# Altium integrated library Renesas ASSP.IntLib: 185 symbols (part 2 of 6)
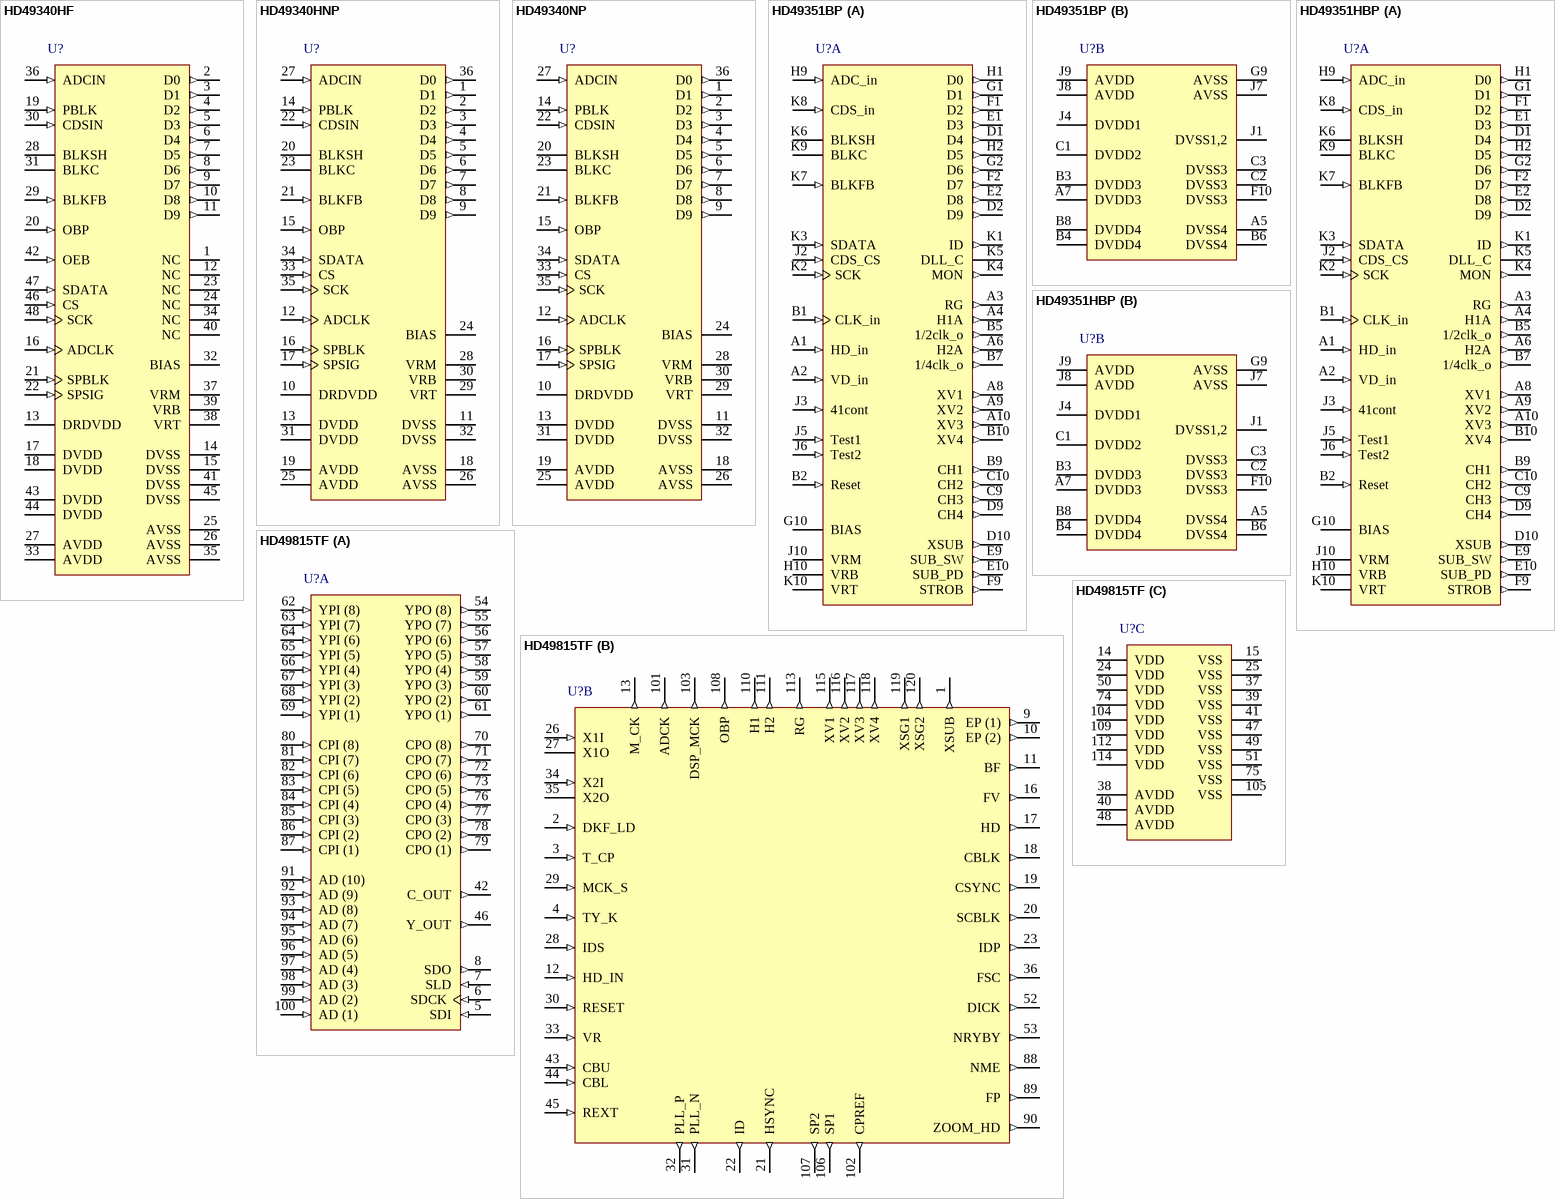
[diagram p17: symbols HD49340HF to HD49815TF]

## HD49351BP
designator U?
CDS/PGA & 10-Bit A/D Converter + TG Converter, 150mW, 25MHz max, 65-pin FBGA, 65-Ball FBGA; Published: 5-Feb-2010; DatasheetVersion: Rev.1.00, Jul-2004; PackageVersion: Jul-2004; PackageReference: TFBGA0606-65; Publisher: Altium Limited; PackageDescription: 65-Ball Plastic Thin Fine Pitch BGA, 6 x 6 mm Body, 0.5 mm Pitch; ComponentLink1Description: Manufacturer Link; ComponentLink1URL: http://sg.renesas.com/fmwk.jsp?cnt=assp_category_landing.jsp&fp=/products/assp; ComponentLink2Description: Datasheet; ComponentLink2URL: http://documentation.renesas.com/eng/products/assp/rej03f0110_hd49351bp_hbp.pdf
footprint TFBGA0606-65 (BGA, 65-Leads, Body 6x6mm, Pitch 0.5mm)
part A pins: A1 HD_in (in), A2 VD_in (in), A3 RG (out), A4 H1A (out), A6 H2A (out), A8 XV1 (out), A9 XV2 (out), A10 XV3 (out), B1 CLK_in (in), B2 Reset (in), B5 1/2clk_o (out), B7 1/4clk_o (out), B9 CH1 (out), B10 XV4 (out), C9 CH3 (out), C10 CH2 (out), D1 D4 (out), D2 D9 (out), D9 CH4 (out), D10 XSUB (out), E1 D3 (out), E2 D8 (out), E9 SUB_SW (out), E10 SUB_PD (out), F1 D2 (out), F2 D7 (out), F9 STROB (out), G1 D1 (out), G2 D6 (out), G10 BIAS, H1 D0 (out), H2 D5 (out), H9 ADC_in (in), H10 VRB, J2 CDS_CS (in), J3 41cont (in), J5 Test1 (in), J6 Test2 (in), J10 VRM, K1 ID (out), K2 SCK (in), K3 SDATA (in), K4 MON (out), K5 DLL_C, K6 BLKSH, K7 BLKFB (in), K8 CDS_in (in), K9 BLKC, K10 VRT
part B pins: A5 DVSS4 (power), A7 DVDD3 (power), B3 DVDD3 (power), B4 DVDD4 (power), B6 DVSS4 (power), B8 DVDD4 (power), C1 DVDD2 (power), C2 DVSS3 (power), C3 DVSS3 (power), F10 DVSS3 (power), G9 AVSS (power), J1 DVSS1,2 (power), J4 DVDD1 (power), J7 AVSS (power), J8 AVDD (power), J9 AVDD (power)

## HD49351HBP
designator U?
CDS/PGA & 10-Bit A/D Converter + TG Converter, 220mW, 36MHz max, 65-pin FBGA, 65-Ball FBGA; Published: 5-Feb-2010; DatasheetVersion: Rev.1.00, Jul-2004; PackageVersion: Jul-2004; PackageReference: TFBGA0606-65; Publisher: Altium Limited; PackageDescription: 65-Ball Plastic Thin Fine Pitch BGA, 6 x 6 mm Body, 0.5 mm Pitch; ComponentLink1Description: Manufacturer Link; ComponentLink1URL: http://sg.renesas.com/fmwk.jsp?cnt=assp_category_landing.jsp&fp=/products/assp; ComponentLink2Description: Datasheet; ComponentLink2URL: http://documentation.renesas.com/eng/products/assp/rej03f0110_hd49351bp_hbp.pdf
footprint TFBGA0606-65 (BGA, 65-Leads, Body 6x6mm, Pitch 0.5mm)
part A pins: A1 HD_in (in), A2 VD_in (in), A3 RG (out), A4 H1A (out), A6 H2A (out), A8 XV1 (out), A9 XV2 (out), A10 XV3 (out), B1 CLK_in (in), B2 Reset (in), B5 1/2clk_o (out), B7 1/4clk_o (out), B9 CH1 (out), B10 XV4 (out), C9 CH3 (out), C10 CH2 (out), D1 D4 (out), D2 D9 (out), D9 CH4 (out), D10 XSUB (out), E1 D3 (out), E2 D8 (out), E9 SUB_SW (out), E10 SUB_PD (out), F1 D2 (out), F2 D7 (out), F9 STROB (out), G1 D1 (out), G2 D6 (out), G10 BIAS, H1 D0 (out), H2 D5 (out), H9 ADC_in (in), H10 VRB, J2 CDS_CS (in), J3 41cont (in), J5 Test1 (in), J6 Test2 (in), J10 VRM, K1 ID (out), K2 SCK (in), K3 SDATA (in), K4 MON (out), K5 DLL_C, K6 BLKSH, K7 BLKFB (in), K8 CDS_in (in), K9 BLKC, K10 VRT
part B pins: A5 DVSS4 (power), A7 DVDD3 (power), B3 DVDD3 (power), B4 DVDD4 (power), B6 DVSS4 (power), B8 DVDD4 (power), C1 DVDD2 (power), C2 DVSS3 (power), C3 DVSS3 (power), F10 DVSS3 (power), G9 AVSS (power), J1 DVSS1,2 (power), J4 DVDD1 (power), J7 AVSS (power), J8 AVDD (power), J9 AVDD (power)

## HD49815TF
designator U?
Digitial Camera Signal Processor, 120-Pin QFP; Published: 5-Feb-2010; DatasheetVersion: Rev.1.00, Jun-2005; PackageVersion: Sep-2005; PackageReference: PTQP0120LA-A; Publisher: Altium Limited; PackageDescription: 120-Pin Plastic Thin QFP, 14 x 14 x 1.0 mm Body, 0.4 mm Pitch; Code_JEITA: P-TQFP120-14x14-0.40; ComponentLink1Description: Manufacturer Link; ComponentLink1URL: http://sg.renesas.com/fmwk.jsp?cnt=assp_category_landing.jsp&fp=/products/assp; ComponentLink2Description: Datasheet; ComponentLink2URL: http://documentation.renesas.com/eng/products/assp/rej03f0138_hd49815tf.pdf; ComponentLink3Description: Packaging Specification; ComponentLink3URL: http://sg.renesas.com/media/products/common_info/package/pdf/ic/code/ptqp0120la_a.pdf
footprint PTQP0120LA-A_N (Thin QFP, 120-Leads, Body 14x14mm, Pitch 0.4mm, IPC Medium Density)
footprint PTQP0120LA-A_L (Thin QFP, 120-Leads, Body 14x14mm, Pitch 0.4mm, IPC High Density)
footprint PTQP0120LA-A_M (Thin QFP, 120-Leads, Body 14x14mm, Pitch 0.4mm, IPC Low Density)
part A pins: 5 SDI (in), 6 SDCK (in), 7 SLD (in), 8 SDO (out), 42 C_OUT (out), 46 Y_OUT (out), 54 YPO (8) (out), 55 YPO (7) (out), 56 YPO (6) (out), 57 YPO (5) (out), 58 YPO (4) (out), 59 YPO (3) (out), 60 YPO (2) (out), 61 YPO (1) (out), 62 YPI (8) (in), 63 YPI (7) (in), 64 YPI (6) (in), 65 YPI (5) (in), 66 YPI (4) (in), 67 YPI (3) (in), 68 YPI (2) (in), 69 YPI (1) (in), 70 CPO (8) (out), 71 CPO (7) (out), 72 CPO (6) (out), 73 CPO (5) (out), 76 CPO (4) (out), 77 CPO (3) (out), 78 CPO (2) (out), 79 CPO (1) (out), 80 CPI (8) (in), 81 CPI (7) (in), 82 CPI (6) (in), 83 CPI (5) (in), 84 CPI (4) (in), 85 CPI (3) (in), 86 CPI (2) (in), 87 CPI (1) (in), 91 AD (10) (in), 92 AD (9) (in), 93 AD (8) (in), 94 AD (7) (in), 95 AD (6) (in), 96 AD (5) (in), 97 AD (4) (in), 98 AD (3) (in), 99 AD (2) (in), 100 AD (1) (in)
part B pins: 1 XSUB (out), 2 DKF_LD (in), 3 T_CP (in), 4 TY_K (in), 9 EP (1) (out), 10 EP (2) (out), 11 BF (out), 12 HD_IN (in), 13 M_CK (out), 16 FV (out), 17 HD (out), 18 CBLK (out), 19 CSYNC (out), 20 SCBLK (out), 21 HSYNC (out), 22 ID (out), 23 IDP (out), 26 X1I (in), 27 X1O, 28 IDS (in), 29 MCK_S (in), 30 RESET (in), 31 PLL_N (out), 32 PLL_P (out), 33 VR (in), 34 X2I (in), 35 X2O, 36 FSC (out), 43 CBU (in), 44 CBL (in), 45 REXT (in), 52 DICK (out), 53 NRYBY (out), 88 NME (out), 89 FP (out), 90 ZOOM_HD (out), 101 ADCK (out), 102 CPREF (out), 103 DSP_MCK (out), 106 SP1 (out), 107 SP2 (out), 108 OBP (out), 110 H1 (out), 111 H2 (out), 113 RG (out), 115 XV1 (out), 116 XV2 (out), 117 XV3 (out), 118 XV4 (out), 119 XSG1 (out), 120 XSG2 (out)
part C pins: 14 VDD, 15 VSS, 24 VDD, 25 VSS, 37 VSS, 38 AVDD, 39 VSS, 40 AVDD, 41 VSS, 47 VSS, 48 AVDD, 49 VSS, 50 VDD, 51 VSS, 74 VDD, 75 VSS, 104 VDD, 105 VSS, 109 VDD, 112 VDD, 114 VDD

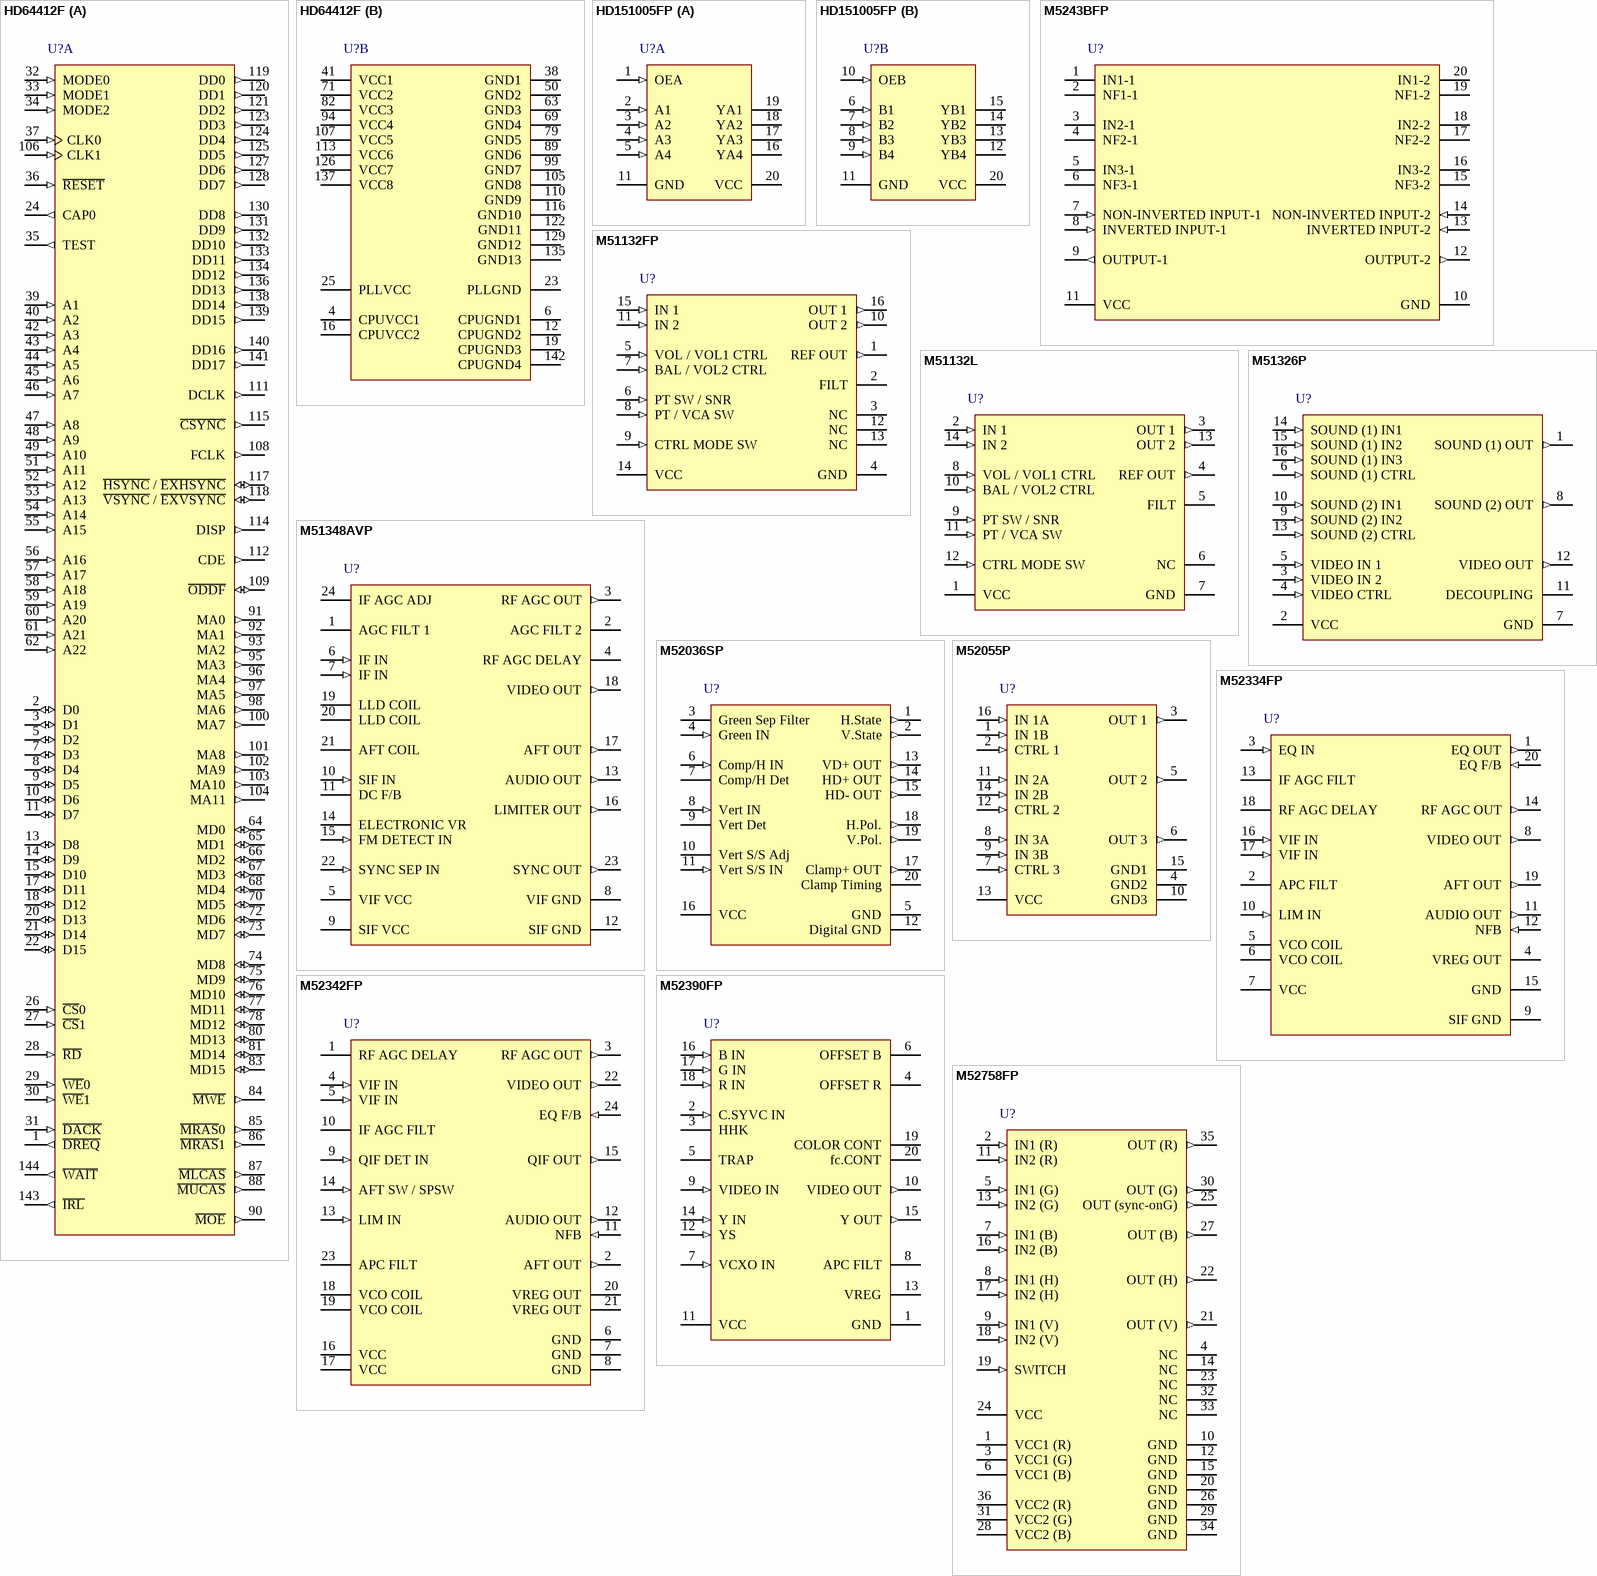
[diagram p3: symbols HD64412F to M52758FP]

## HD64412F
designator U?
Quick 2D SuperH Graphics Accelerator, 144-Pin QFP; Published: 5-Feb-2010; DatasheetVersion: Rev.1.0, May-2000; PackageVersion: Sep-2005; PackageReference: PRQP0144KA-A; Publisher: Altium Limited; PackageDescription: 144-Pin Plastic Quad Flat Pack, 20 x 20 x 2.7 mm Body, 0.5 mm Pitch; Code_JEITA: P-QFP144-20x20-0.50; ComponentLink1Description: Manufacturer Link; ComponentLink1URL: http://sg.renesas.com/fmwk.jsp?cnt=assp_category_landing.jsp&fp=/products/assp; ComponentLink2Description: Datasheet; ComponentLink2URL: http://documentation.renesas.com/eng/products/mpumcu/e602158_hd64412.pdf; ComponentLink3Description: Packaging Specification; ComponentLink3URL: http://sg.renesas.com/media/products/common_info/package/pdf/ic/code/prqp0144ka_a.pdf
footprint PRQP0144KA-A_N (Shrink QFP, 144-Leads, Body 20x20mm, Pitch 0.5mm, IPC Medium Density)
footprint PRQP0144KA-A_L (Shrink QFP, 144-Leads, Body 20x20mm, Pitch 0.5mm, IPC High Density)
footprint PRQP0144KA-A_M (Shrink QFP, 144-Leads, Body 20x20mm, Pitch 0.5mm, IPC Low Density)
part A pins: 1 ~{DREQ} (out), 2 D0 (io), 3 D1 (io), 5 D2 (io), 7 D3 (io), 8 D4 (io), 9 D5 (io), 10 D6 (io), 11 D7 (io), 13 D8 (io), 14 D9 (io), 15 D10 (io), 17 D11 (io), 18 D12 (io), 20 D13 (io), 21 D14 (io), 22 D15 (io), 24 CAP0 (out), 26 ~{CS}0 (in), 27 ~{CS}1 (in), 28 ~{RD} (in), 29 ~{WE}0 (in), 30 ~{WE}1 (in), 31 ~{DACK} (in), 32 MODE0 (in), 33 MODE1 (in), 34 MODE2 (in), 35 TEST (out), 36 ~{RESET} (in), 37 CLK0 (in), 39 A1 (in), 40 A2 (in), 42 A3 (in), 43 A4 (in), 44 A5 (in), 45 A6 (in), 46 A7 (in), 47 A8 (in), 48 A9 (in), 49 A10 (in), 51 A11 (in), 52 A12 (in), 53 A13 (in), 54 A14 (in), 55 A15 (in), 56 A16 (in), 57 A17 (in), 58 A18 (in), 59 A19 (in), 60 A20 (in), 61 A21 (in), 62 A22 (in), 64 MD0 (io), 65 MD1 (io), 66 MD2 (io), 67 MD3 (io), 68 MD4 (io), 70 MD5 (io), 72 MD6 (io), 73 MD7 (io), 74 MD8 (io), 75 MD9 (io), 76 MD10 (io), 77 MD11 (io), 78 MD12 (io), 80 MD13 (io), 81 MD14 (io), 83 MD15 (io), 84 ~{MWE} (out), 85 ~{MRAS}0 (out), 86 ~{MRAS}1 (out), 87 ~{MLCAS} (out), 88 ~{MUCAS} (out), 90 ~{MOE} (out), 91 MA0 (out), 92 MA1 (out), 93 MA2 (out), 95 MA3 (out), 96 MA4 (out), 97 MA5 (out), 98 MA6 (out), 100 MA7 (out), 101 MA8 (out), 102 MA9 (out), 103 MA10 (out), 104 MA11 (out), 106 CLK1 (in), 108 FCLK (out), 109 ~{ODDF} (io), 111 DCLK (out), 112 CDE (out), 114 DISP (out), 115 ~{CSYNC} (out), 117 ~{HSYNC} / ~{EXHSYNC} (io), 118 ~{VSYNC} / ~{EXVSYNC} (io), 119 DD0 (out), 120 DD1 (out), 121 DD2 (out), 123 DD3 (out), 124 DD4 (out), 125 DD5 (out), 127 DD6 (out), 128 DD7 (out), 130 DD8 (out), 131 DD9 (out), 132 DD10 (out), 133 DD11 (out), 134 DD12 (out), 136 DD13 (out), 138 DD14 (out), 139 DD15 (out), 140 DD16 (out), 141 DD17 (out), 143 ~{IRL} (out), 144 ~{WAIT} (out)
part B pins: 4 CPUVCC1 (power), 6 CPUGND1 (power), 12 CPUGND2 (power), 16 CPUVCC2 (power), 19 CPUGND3 (power), 23 PLLGND (power), 25 PLLVCC (power), 38 GND1 (power), 41 VCC1 (power), 50 GND2 (power), 63 GND3 (power), 69 GND4 (power), 71 VCC2 (power), 79 GND5 (power), 82 VCC3 (power), 89 GND6 (power), 94 VCC4 (power), 99 GND7 (power), 105 GND8 (power), 107 VCC5 (power), 110 GND9 (power), 113 VCC6 (power), 116 GND10 (power), 122 GND11 (power), 126 VCC7 (power), 129 GND12 (power), 135 GND13 (power), 137 VCC8 (power), 142 CPUGND4 (power)

## HD151005FP
designator U?
Octal Inverter Buffers/Drivers with Open-Drain High Voltage Outputs, 20-Pin SOP; Published: 5-Feb-2010; DatasheetVersion: Rev.2.00, Jul-2004; PackageVersion: Sep-2005; PackageReference: PRSP0020DD-B; Publisher: Altium Limited; PackageDescription: 20-Pin Plastic Small Outline Package, 12.6 x 5.5 x 1.8 mm Body, 1.27 mm Pitch; Code_JEITA: P-SOP20-5.5x12.6-1.27; ComponentLink1Description: Manufacturer Link; ComponentLink1URL: http://sg.renesas.com/fmwk.jsp?cnt=assp_category_landing.jsp&fp=/products/assp; ComponentLink2Description: Datasheet; ComponentLink2URL: http://documentation.renesas.com/eng/products/logic/rej03d0297_hd151005.pdf; ComponentLink3Description: Packaging Specification; ComponentLink3URL: http://sg.renesas.com/media/products/common_info/package/pdf/ic/code/prsp0020dd_b.pdf
footprint PRSP0020DD-B_N (SOP, 20-Leads, Body 12.6x5.3mm, Pitch 1.27mm, IPC Medium Density)
footprint PRSP0020DD-B_L (SOP, 20-Leads, Body 12.6x5.3mm, Pitch 1.27mm, IPC High Density)
footprint PRSP0020DD-B_M (SOP, 20-Leads, Body 12.6x5.3mm, Pitch 1.27mm, IPC Low Density)
pins on every part: 11 GND (power), 20 VCC (power)
part A pins: 1 OEA (in), 2 A1 (in), 3 A2 (in), 4 A3 (in), 5 A4 (in), 16 YA4 (oc), 17 YA3 (oc), 18 YA2 (oc), 19 YA1 (oc)
part B pins: 6 B1 (in), 7 B2 (in), 8 B3 (in), 9 B4 (in), 10 OEB (in), 12 YB4 (oc), 13 YB3 (oc), 14 YB2 (oc), 15 YB1 (oc)

## M5243BFP
designator U?
3 Band Dual Graphic Equalizer, 20-Pin SOP; Published: 5-Feb-2010; DatasheetVersion: Rev.1.0, Sep-2003; PackageVersion: Sep-2005; PackageReference: PRSP0020DA-A; Publisher: Altium Limited; PackageDescription: 20-Pin Plastic Small Outline Package, 12.6 x 5.3 x 1.8 mm Body, 1.27 mm Pitch; Code_JEITA: P-SOP20-5.3x12.6-1.27; ComponentLink1Description: Manufacturer Link; ComponentLink1URL: http://sg.renesas.com/fmwk.jsp?cnt=assp_category_landing.jsp&fp=/products/assp; ComponentLink2Description: Datasheet; ComponentLink2URL: http://documentation.renesas.com/eng/products/assp/rej03f0082_m5243bfp.pdf; ComponentLink3Description: Packaging Specification; ComponentLink3URL: http://sg.renesas.com/media/products/common_info/package/pdf/ic/code/prsp0020da_a.pdf
footprint PRSP0020DA-A_N (SOP, 20-Leads, Body 12.6x5.3mm, Pitch 1.27mm, IPC Medium Density)
footprint PRSP0020DA-A_L (SOP, 20-Leads, Body 12.6x5.3mm, Pitch 1.27mm, IPC High Density)
footprint PRSP0020DA-A_M (SOP, 20-Leads, Body 12.6x5.3mm, Pitch 1.27mm, IPC Low Density)
pins: 1 IN1-1, 2 NF1-1, 3 IN2-1, 4 NF2-1, 5 IN3-1, 6 NF3-1, 7 NON-INVERTED INPUT-1 (in), 8 INVERTED INPUT-1 (in), 9 OUTPUT-1 (out), 10 GND (power), 11 VCC (power), 12 OUTPUT-2 (out), 13 INVERTED INPUT-2 (in), 14 NON-INVERTED INPUT-2 (in), 15 NF3-2, 16 IN3-2, 17 NF2-2, 18 IN2-2, 19 NF1-2, 20 IN1-2

## M51132FP
designator U?
Dual Electronic Volume/Balance, 16-Pin SOP; Published: 5-Feb-2010; DatasheetVersion: Rev.1.0, Sep-2003; PackageVersion: Sep-2005; PackageReference: PRSP0016DE-A; Publisher: Altium Limited; PackageDescription: 16-Pin Plastic Small Outline Package 1.27 mm Pitch; Code_JEITA: P-SOP16-5.3x10.1-1.27; ComponentLink1Description: Manufacturer Link; ComponentLink1URL: http://sg.renesas.com/fmwk.jsp?cnt=assp_category_landing.jsp&fp=/products/assp; ComponentLink2Description: Datasheet; ComponentLink2URL: http://documentation.renesas.com/eng/products/assp/rej03f0026_m51132l_fp.pdf; ComponentLink3Description: Packaging Specification; ComponentLink3URL: http://sg.renesas.com/media/products/common_info/package/pdf/ic/code/prsp0016de_a.pdf
footprint PRSP0016DE-A_N (SOP, 16-Leads, Body 10.1x5.3mm, Pitch 1.27mm, IPC Medium Density)
footprint PRSP0016DE-A_L (SOP, 16-Leads, Body 10.1x5.3mm, Pitch 1.27mm, IPC High Density)
footprint PRSP0016DE-A_M (SOP, 16-Leads, Body 10.1x5.3mm, Pitch 1.27mm, IPC Low Density)
pins: 1 REF OUT (out), 2 FILT, 3 NC, 4 GND (power), 5 VOL / VOL1 CTRL (in), 6 PT SW / SNR (in), 7 BAL / VOL2 CTRL (in), 8 PT / VCA SW (in), 9 CTRL MODE SW (in), 10 OUT 2 (out), 11 IN 2 (in), 12 NC, 13 NC, 14 VCC (power), 15 IN 1 (in), 16 OUT 1 (out)

## M51132L
designator U?
Dual Electronic Volume/Balance, 14-Pin ZIP; Published: 5-Feb-2010; DatasheetVersion: Rev.1.0, Sep-2003; PackageVersion: Jun-2006; PackageReference: PRZP0014DA-A; Publisher: Altium Limited; PackageDescription: 14-Pin Plastic ZIP, 19x2.8x6.4 mm Body, 1.27 mm Pitch; Code_JEITA: P-ZIP14-6.3x19-1.27; ComponentLink1Description: Manufacturer Link; ComponentLink1URL: http://sg.renesas.com/fmwk.jsp?cnt=assp_category_landing.jsp&fp=/products/assp; ComponentLink2Description: Datasheet; ComponentLink2URL: http://documentation.renesas.com/eng/products/assp/rej03f0026_m51132l_fp.pdf; ComponentLink3Description: Packaging Specification; ComponentLink3URL: http://sg.renesas.com/media/products/common_info/package/pdf/ic/code/przp0014da_a.pdf
footprint PRZP0014DA-A (ZIP; 14 Leads; Row Space 2.54 mm; Pitch 1.27 mm)
pins: 1 VCC (power), 2 IN 1 (in), 3 OUT 1 (out), 4 REF OUT (out), 5 FILT, 6 NC, 7 GND (power), 8 VOL / VOL1 CTRL (in), 9 PT SW / SNR (in), 10 BAL / VOL2 CTRL (in), 11 PT / VCA SW (in), 12 CTRL MODE SW (in), 13 OUT 2 (out), 14 IN 2 (in)

## M51326P
designator U?
Analog Switch for video and sound inputs, 16-Pin DIP; ComponentAvailability: EOL Product; Published: 5-Feb-2010; DatasheetVersion: Rev.1.0, Sep-2003; PackageVersion: Sep-2005; PackageReference: PRDP0016AA-A; Publisher: Altium Limited; PackageDescription: 16-Pin Plastic DIP, 19 x 6.3 mm Body, 7.62 mm Row Spacing, Pitch 2.54 mm; Code_JEITA: P-DIP16-6.3x19-2.54; ComponentLink1Description: Manufacturer Link; ComponentLink1URL: http://sg.renesas.com/fmwk.jsp?cnt=assp_category_landing.jsp&fp=/products/assp; ComponentLink2Description: Datasheet; ComponentLink2URL: http://documentation.renesas.com/eng/products/assp/rej03f0079_m51326p.pdf; ComponentLink3Description: Packaging Specification; ComponentLink3URL: http://sg.renesas.com/media/products/common_info/package/pdf/ic/code/prdp0016aa_a.pdf
footprint PRDP0016AA-A (DIP, 16-Leads, Row Spacing 7.62mm, Pitch 2.54mm, Body 19x6.3mm)
pins: 1 SOUND (1) OUT (out), 2 VCC (power), 3 VIDEO IN 2 (in), 4 VIDEO CTRL (in), 5 VIDEO IN 1 (in), 6 SOUND (1) CTRL (in), 7 GND (power), 8 SOUND (2) OUT (out), 9 SOUND (2) IN2 (in), 10 SOUND (2) IN1 (in), 11 DECOUPLING, 12 VIDEO OUT (out), 13 SOUND (2) CTRL (in), 14 SOUND (1) IN1 (in), 15 SOUND (1) IN2 (in), 16 SOUND (1) IN3 (in)

## M51348AVP
designator U?
VIF/SIF for Low Supply Voltage, 24-Pin SOP; ComponentAvailability: EOL Product; Published: 5-Feb-2010; DatasheetVersion: Rev.1.0, Sep-2003; PackageVersion: Sep-2005; PackageReference: PLSP0024JA-A; Publisher: Altium Limited; PackageDescription: 24-Pin Plastic Low Profile Shrink SOP, 7.8 x 5.6 x 1.15 mm Body, 0.65 mm Pitch; Code_JEITA: P-LSSOP24-5.6x7.8-0.65; ComponentLink1Description: Manufacturer Link; ComponentLink1URL: http://sg.renesas.com/fmwk.jsp?cnt=assp_category_landing.jsp&fp=/products/assp; ComponentLink2Description: Datasheet; ComponentLink2URL: http://documentation.renesas.com/eng/products/assp/rej03f0062_m51348avp.pdf; ComponentLink3Description: Packaging Specification; ComponentLink3URL: http://sg.renesas.com/media/products/common_info/package/pdf/ic/code/plsp0024ja_a.pdf
footprint PLSP0024JA-A_N (SOP, 24-Leads, Body 7.8x5.6mm, Pitch 0.65mm, IPC Medium Density)
footprint PLSP0024JA-A_L (SOP, 24-Leads, Body 7.8x5.6mm, Pitch 0.65mm, IPC High Density)
footprint PLSP0024JA-A_M (SOP, 24-Leads, Body 7.8x5.6mm, Pitch 0.65mm, IPC Low Density)
pins: 1 AGC FILT 1, 2 AGC FILT 2, 3 RF AGC OUT (out), 4 RF AGC DELAY, 5 VIF VCC (power), 6 IF IN (in), 7 IF IN (in), 8 VIF GND (power), 9 SIF VCC (power), 10 SIF IN (in), 11 DC F/B, 12 SIF GND (power), 13 AUDIO OUT (out), 14 ELECTRONIC VR, 15 FM DETECT IN (in), 16 LIMITER OUT (out), 17 AFT OUT (out), 18 VIDEO OUT (out), 19 LLD COIL, 20 LLD COIL, 21 AFT COIL, 22 SYNC SEP IN (in), 23 SYNC OUT (out), 24 IF AGC ADJ

## M52036SP
designator U?
Automatic-Sync Signal Processor, 20-Pin DIP; ComponentAvailability: Not Recommended for New Design; Published: 5-Feb-2010; DatasheetVersion: Rev.1.0, Sep-2003; PackageVersion: Sep-2005; PackageReference: PRDP0020BA-A; Publisher: Altium Limited; PackageDescription: 20-Pin Plastic Shrink DIP, 19 x 6.3 mm Body, 7.62 mm Row Spacing, 1.778 mm Pitch; Code_JEITA: P-SDIP20-6.3x19-1.78; ComponentLink1Description: Manufacturer Link; ComponentLink1URL: http://sg.renesas.com/fmwk.jsp?cnt=assp_category_landing.jsp&fp=/products/assp; ComponentLink2Description: Datasheet; ComponentLink2URL: http://documentation.renesas.com/eng/products/assp/rej03f0086_m52036sp.pdf; ComponentLink3Description: Packaging Specification; ComponentLink3URL: http://sg.renesas.com/media/products/common_info/package/pdf/ic/code/prdp0020ba_a.pdf
footprint PRDP0020BA-A (DIP, 20-Leads, Row Spacing 7.62mm, Pitch 1.778mm, Body 19x6.3mm)
pins: 1 H.State (out), 2 V.State (out), 3 Green Sep Filter, 4 Green IN (in), 5 GND (power), 6 Comp/H IN (in), 7 Comp/H Det, 8 Vert IN (in), 9 Vert Det, 10 Vert S/S Adj, 11 Vert S/S IN (in), 12 Digital GND (power), 13 VD+ OUT (out), 14 HD+ OUT (out), 15 HD- OUT (out), 16 VCC (power), 17 Clamp+ OUT (out), 18 H.Pol. (out), 19 V.Pol. (out), 20 Clamp Timing

## M52055P
designator U?
3-Channel Audio/Video Analog Switch, 16-Pin DIP; ComponentAvailability: EOL Product; Published: 5-Feb-2010; DatasheetVersion: Rev.1.0, Sep-2003; PackageVersion: Sep-2005; PackageReference: PRDP0016AA-A; Publisher: Altium Limited; PackageDescription: 16-Pin Plastic DIP, 19 x 6.3 mm Body, 7.62 mm Row Spacing, Pitch 2.54 mm; Code_JEITA: P-DIP16-6.3x19-2.54; ComponentLink1Description: Manufacturer Link; ComponentLink1URL: http://sg.renesas.com/fmwk.jsp?cnt=assp_category_landing.jsp&fp=/products/assp; ComponentLink2Description: Datasheet; ComponentLink2URL: http://documentation.renesas.com/eng/products/assp/rej03f0083_m52055p.pdf; ComponentLink3Description: Packaging Specification; ComponentLink3URL: http://sg.renesas.com/media/products/common_info/package/pdf/ic/code/prdp0016aa_a.pdf
footprint PRDP0016AA-A (DIP, 16-Leads, Row Spacing 7.62mm, Pitch 2.54mm, Body 19x6.3mm)
pins: 1 IN 1B (in), 2 CTRL 1 (in), 3 OUT 1 (out), 4 GND2 (power), 5 OUT 2 (out), 6 OUT 3 (out), 7 CTRL 3 (in), 8 IN 3A (in), 9 IN 3B (in), 10 GND3 (power), 11 IN 2A (in), 12 CTRL 2 (in), 13 VCC (power), 14 IN 2B (in), 15 GND1 (power), 16 IN 1A (in)

## M52334FP
designator U?
PLL-Split VIF/SIF IC, 20-Pin SOP; ComponentAvailability: EOL Product; Published: 5-Feb-2010; DatasheetVersion: Rev.2.01, Jan-2008; PackageVersion: Sep-2005; PackageReference: PRSP0020DA-A; Publisher: Altium Limited; PackageDescription: 20-Pin Plastic Small Outline Package, 12.6 x 5.3 x 1.8 mm Body, 1.27 mm Pitch; Code_JEITA: P-SOP20-5.3x12.6-1.27; ComponentLink1Description: Manufacturer Link; ComponentLink1URL: http://sg.renesas.com/fmwk.jsp?cnt=assp_category_landing.jsp&fp=/products/assp; ComponentLink2Description: Datasheet; ComponentLink2URL: http://documentation.renesas.com/eng/products/assp/rej03f0164_m52334fpds.pdf; ComponentLink3Description: Packaging Specification; ComponentLink3URL: http://sg.renesas.com/media/products/common_info/package/pdf/ic/code/prsp0020da_a.pdf
footprint PRSP0020DA-A_N (SOP, 20-Leads, Body 12.6x5.3mm, Pitch 1.27mm, IPC Medium Density)
footprint PRSP0020DA-A_L (SOP, 20-Leads, Body 12.6x5.3mm, Pitch 1.27mm, IPC High Density)
footprint PRSP0020DA-A_M (SOP, 20-Leads, Body 12.6x5.3mm, Pitch 1.27mm, IPC Low Density)
pins: 1 EQ OUT (out), 2 APC FILT, 3 EQ IN (in), 4 VREG OUT (power), 5 VCO COIL, 6 VCO COIL, 7 VCC (power), 8 VIDEO OUT (out), 9 SIF GND (power), 10 LIM IN (in), 11 AUDIO OUT (out), 12 NFB (in), 13 IF AGC FILT, 14 RF AGC OUT (out), 15 GND (power), 16 VIF IN (in), 17 VIF IN (in), 18 RF AGC DELAY, 19 AFT OUT (out), 20 EQ F/B (in)

## M52342FP
designator U?
PLL-Split VIF/SIF IC, 24-Pin SOP; ComponentAvailability: EOL Product; Published: 5-Feb-2010; DatasheetVersion: Rev.2.01, Jan-2008; PackageVersion: Sep-2005; PackageReference: PRSP0024GA-A; Publisher: Altium Limited; PackageDescription: 24-Pin Plastic Shrink SOP, 10.1 x 5.3 x 1.8 mm Body, 0.8 mm Pitch; Code_JEITA: P-SSOP24-5.3x10.1-0.80; ComponentLink1Description: Manufacturer Link; ComponentLink1URL: http://sg.renesas.com/fmwk.jsp?cnt=assp_category_landing.jsp&fp=/products/assp; ComponentLink2Description: Datasheet; ComponentLink2URL: http://documentation.renesas.com/eng/products/assp/rej03f0165_m52342fpds.pdf; ComponentLink3Description: Packaging Specification; ComponentLink3URL: http://sg.renesas.com/media/products/common_info/package/pdf/ic/code/prsp0024ga_a.pdf
footprint PRSP0024GA-A_N (SOP, 24-Leads, Body 10.1x5.3mm, Pitch 0.8mm, IPC Medium Density)
footprint PRSP0024GA-A_L (SOP, 24-Leads, Body 10.1x5.3mm, Pitch 0.8mm, IPC High Density)
footprint PRSP0024GA-A_M (SOP, 24-Leads, Body 10.1x5.3mm, Pitch 0.8mm, IPC Low Density)
pins: 1 RF AGC DELAY, 2 AFT OUT (out), 3 RF AGC OUT (out), 4 VIF IN (in), 5 VIF IN (in), 6 GND (power), 7 GND (power), 8 GND (power), 9 QIF DET IN (in), 10 IF AGC FILT, 11 NFB (in), 12 AUDIO OUT (out), 13 LIM IN (in), 14 AFT SW / SPSW (in), 15 QIF OUT (out), 16 VCC (power), 17 VCC (power), 18 VCO COIL, 19 VCO COIL, 20 VREG OUT (power), 21 VREG OUT (power), 22 VIDEO OUT (out), 23 APC FILT, 24 EQ F/B (in)

## M52390FP
designator U?
NTSC/PAL Encoder, 20-Pin SOP; Published: 5-Feb-2010; DatasheetVersion: Rev.1.0, Sep-2003; PackageVersion: Sep-2005; PackageReference: PRSP0020DA-A; Publisher: Altium Limited; PackageDescription: 20-Pin Plastic Small Outline Package, 12.6 x 5.3 x 1.8 mm Body, 1.27 mm Pitch; Code_JEITA: P-SOP20-5.3x12.6-1.27; ComponentLink1Description: Manufacturer Link; ComponentLink1URL: http://sg.renesas.com/fmwk.jsp?cnt=assp_category_landing.jsp&fp=/products/assp; ComponentLink2Description: Datasheet; ComponentLink2URL: http://documentation.renesas.com/eng/products/assp/rej03f0080_m52390fp.pdf; ComponentLink3Description: Packaging Specification; ComponentLink3URL: http://sg.renesas.com/media/products/common_info/package/pdf/ic/code/prsp0020da_a.pdf
footprint PRSP0020DA-A_N (SOP, 20-Leads, Body 12.6x5.3mm, Pitch 1.27mm, IPC Medium Density)
footprint PRSP0020DA-A_L (SOP, 20-Leads, Body 12.6x5.3mm, Pitch 1.27mm, IPC High Density)
footprint PRSP0020DA-A_M (SOP, 20-Leads, Body 12.6x5.3mm, Pitch 1.27mm, IPC Low Density)
pins: 1 GND (power), 2 C.SYVC IN (in), 3 HHK, 4 OFFSET R, 5 TRAP, 6 OFFSET B, 7 VCXO IN (in), 8 APC FILT, 9 VIDEO IN (in), 10 VIDEO OUT (out), 11 VCC (power), 12 YS (in), 13 VREG (power), 14 Y IN (in), 15 Y OUT (out), 16 B IN (in), 17 G IN (in), 18 R IN (in), 19 COLOR CONT, 20 fc.CONT

## M52758FP
designator U?
Wide Band Analog Switch, 36-Pin SOP; ComponentAvailability: EOL Product; Published: 5-Feb-2010; DatasheetVersion: Rev.2.01, Mar-2008; PackageVersion: Sep-2005; PackageReference: PRSP0036GA-B; Publisher: Altium Limited; PackageDescription: 36-Pin Plastic Shrink SOP, 15 x 8.4 mm Body, 0.8 mm Pitch; Code_JEITA: P-SSOP36-8.4x15-0.80; ComponentLink1Description: Manufacturer Link; ComponentLink1URL: http://sg.renesas.com/fmwk.jsp?cnt=assp_category_landing.jsp&fp=/products/assp; ComponentLink2Description: Datasheet; ComponentLink2URL: http://documentation.renesas.com/eng/products/assp/rej03f0196_m52758spds.pdf; ComponentLink3Description: Packaging Specification; ComponentLink3URL: http://sg.renesas.com/media/products/common_info/package/pdf/ic/code/prsp0036ga_b.pdf
footprint PRSP0036GA-B_N (SOP, 36-Leads, Body 15x8.4mm, Pitch 0.8mm, IPC Medium Density)
footprint PRSP0036GA-B_L (SOP, 36-Leads, Body 15x8.4mm, Pitch 0.8mm, IPC High Density)
footprint PRSP0036GA-B_M (SOP, 36-Leads, Body 15x8.4mm, Pitch 0.8mm, IPC Low Density)
pins: 1 VCC1 (R) (power), 2 IN1 (R) (in), 3 VCC1 (G) (power), 4 NC, 5 IN1 (G) (in), 6 VCC1 (B) (power), 7 IN1 (B) (in), 8 IN1 (H) (in), 9 IN1 (V) (in), 10 GND (power), 11 IN2 (R) (in), 12 GND (power), 13 IN2 (G) (in), 14 NC, 15 GND (power), 16 IN2 (B) (in), 17 IN2 (H) (in), 18 IN2 (V) (in), 19 SWITCH (in), 20 GND (power), 21 OUT (V) (out), 22 OUT (H) (out), 23 NC, 24 VCC (power), 25 OUT (sync-onG) (out), 26 GND (power), 27 OUT (B) (out), 28 VCC2 (B) (power), 29 GND (power), 30 OUT (G) (out), 31 VCC2 (G) (power), 32 NC, 33 NC, 34 GND (power), 35 OUT (R) (out), 36 VCC2 (R) (power)

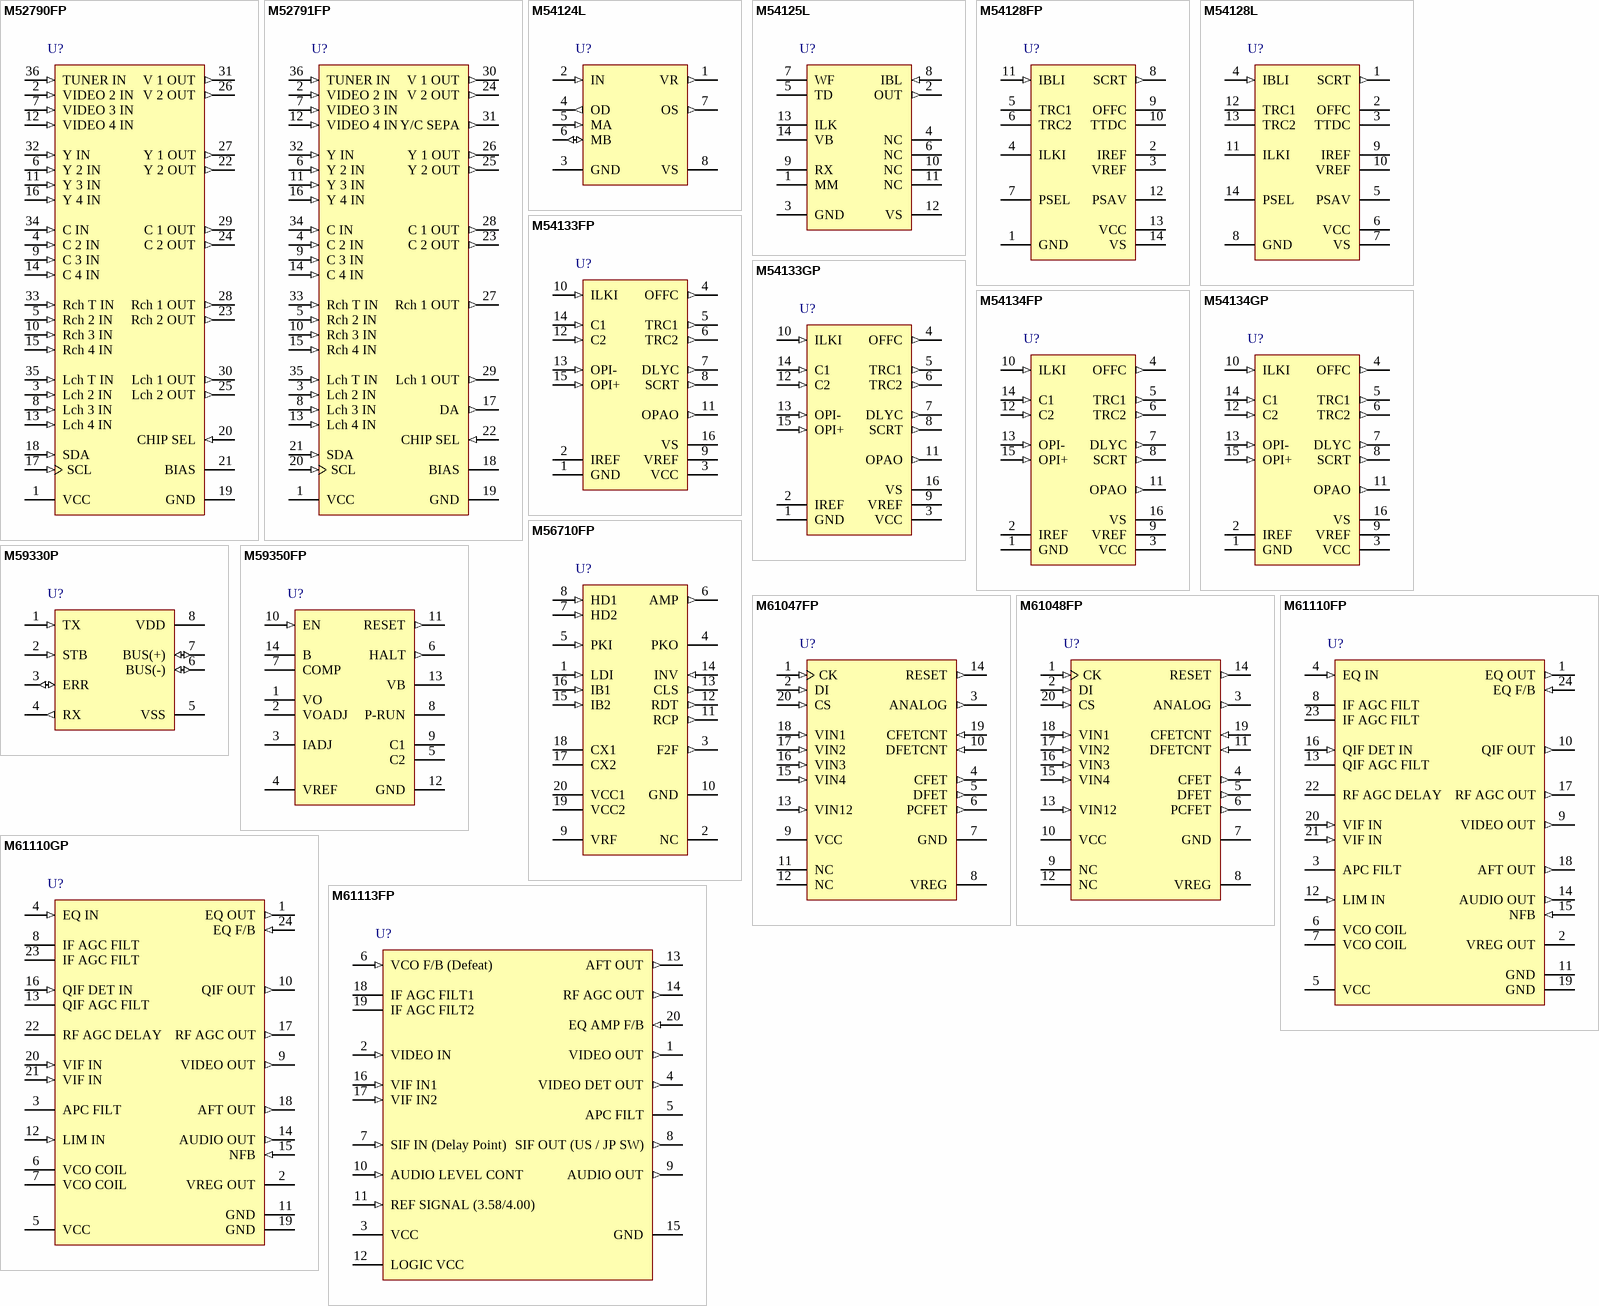
[diagram p4: symbols M52790FP to M61113FP]

## M52790FP
designator U?
4 Input Video/Audio Switches with Y/C Mix, 36-Pin SOP; ComponentAvailability: Not Recommended for New Design; Published: 5-Feb-2010; DatasheetVersion: Rev.2.01, Mar-2008; PackageVersion: Sep-2005; PackageReference: PRSP0036GA-B; Publisher: Altium Limited; PackageDescription: 36-Pin Plastic Shrink SOP, 15 x 8.4 mm Body, 0.8 mm Pitch; Code_JEITA: P-SSOP36-8.4x15-0.80; ComponentLink1Description: Manufacturer Link; ComponentLink1URL: http://sg.renesas.com/fmwk.jsp?cnt=assp_category_landing.jsp&fp=/products/assp; ComponentLink2Description: Datasheet; ComponentLink2URL: http://documentation.renesas.com/eng/products/assp/rej03f0187_m52790spds.pdf; ComponentLink3Description: Packaging Specification; ComponentLink3URL: http://sg.renesas.com/media/products/common_info/package/pdf/ic/code/prsp0036ga_b.pdf
footprint PRSP0036GA-B_N (SOP, 36-Leads, Body 15x8.4mm, Pitch 0.8mm, IPC Medium Density)
footprint PRSP0036GA-B_L (SOP, 36-Leads, Body 15x8.4mm, Pitch 0.8mm, IPC High Density)
footprint PRSP0036GA-B_M (SOP, 36-Leads, Body 15x8.4mm, Pitch 0.8mm, IPC Low Density)
pins: 1 VCC (power), 2 VIDEO 2 IN (in), 3 Lch 2 IN (in), 4 C 2 IN (in), 5 Rch 2 IN (in), 6 Y 2 IN (in), 7 VIDEO 3 IN (in), 8 Lch 3 IN (in), 9 C 3 IN (in), 10 Rch 3 IN (in), 11 Y 3 IN (in), 12 VIDEO 4 IN (in), 13 Lch 4 IN (in), 14 C 4 IN (in), 15 Rch 4 IN (in), 16 Y 4 IN (in), 17 SCL (in), 18 SDA (in), 19 GND (power), 20 CHIP SEL (in), 21 BIAS, 22 Y 2 OUT (out), 23 Rch 2 OUT (out), 24 C 2 OUT (out), 25 Lch 2 OUT (out), 26 V 2 OUT (out), 27 Y 1 OUT (out), 28 Rch 1 OUT (out), 29 C 1 OUT (out), 30 Lch 1 OUT (out), 31 V 1 OUT (out), 32 Y IN (in), 33 Rch T IN (in), 34 C IN (in), 35 Lch T IN (in), 36 TUNER IN (in)

## M52791FP
designator U?
4 Input Video/Audio Switches with Y/C Mix, 36-Pin SOP; ComponentAvailability: Not Recommended for New Design; Published: 5-Feb-2010; DatasheetVersion: Rev.2.01, Mar-2008; PackageVersion: Sep-2005; PackageReference: PRSP0036GA-B; Publisher: Altium Limited; PackageDescription: 36-Pin Plastic Shrink SOP, 15 x 8.4 mm Body, 0.8 mm Pitch; Code_JEITA: P-SSOP36-8.4x15-0.80; ComponentLink1Description: Manufacturer Link; ComponentLink1URL: http://sg.renesas.com/fmwk.jsp?cnt=assp_category_landing.jsp&fp=/products/assp; ComponentLink2Description: Datasheet; ComponentLink2URL: http://documentation.renesas.com/eng/products/assp/rej03f0188_m52791spds.pdf; ComponentLink3Description: Packaging Specification; ComponentLink3URL: http://sg.renesas.com/media/products/common_info/package/pdf/ic/code/prsp0036ga_b.pdf
footprint PRSP0036GA-B_N (SOP, 36-Leads, Body 15x8.4mm, Pitch 0.8mm, IPC Medium Density)
footprint PRSP0036GA-B_L (SOP, 36-Leads, Body 15x8.4mm, Pitch 0.8mm, IPC High Density)
footprint PRSP0036GA-B_M (SOP, 36-Leads, Body 15x8.4mm, Pitch 0.8mm, IPC Low Density)
pins: 1 VCC (power), 2 VIDEO 2 IN (in), 3 Lch 2 IN (in), 4 C 2 IN (in), 5 Rch 2 IN (in), 6 Y 2 IN (in), 7 VIDEO 3 IN (in), 8 Lch 3 IN (in), 9 C 3 IN (in), 10 Rch 3 IN (in), 11 Y 3 IN (in), 12 VIDEO 4 IN (in), 13 Lch 4 IN (in), 14 C 4 IN (in), 15 Rch 4 IN (in), 16 Y 4 IN (in), 17 DA (out), 18 BIAS, 19 GND (power), 20 SCL (in), 21 SDA (in), 22 CHIP SEL (in), 23 C 2 OUT (out), 24 V 2 OUT (out), 25 Y 2 OUT (out), 26 Y 1 OUT (out), 27 Rch 1 OUT (out), 28 C 1 OUT (out), 29 Lch 1 OUT (out), 30 V 1 OUT (out), 31 Y/C SEPA (out), 32 Y IN (in), 33 Rch T IN (in), 34 C IN (in), 35 Lch T IN (in), 36 TUNER IN (in)

## M54124L
designator U?
Earth Leakage Current Detector, 8-Pin SIL; Published: 5-Feb-2010; DatasheetVersion: Rev.1.0, Sep-2003; PackageVersion: Sep-2005; PackageReference: PRSS0008AA-A; Publisher: Altium Limited; PackageDescription: 8-Pin Plastic SIP, 19 x 2.8 x 6.4 mm Body, 2.54 mm Pitch; Code_JEITA: P-SIP8-6.4x19-2.54; ComponentLink1Description: Manufacturer Link; ComponentLink1URL: http://sg.renesas.com/fmwk.jsp?cnt=assp_category_landing.jsp&fp=/products/assp; ComponentLink2Description: Datasheet; ComponentLink2URL: http://documentation.renesas.com/eng/products/assp/rej03f0031_m54124l.pdf; ComponentLink3Description: Packaging Specification; ComponentLink3URL: http://sg.renesas.com/media/products/common_info/package/pdf/ic/code/prss0008aa_a.pdf
footprint PRSS0008AA-A (SIP; 8 Leads; Body 19 x 2.8 mm (LxW typ); Pitch 2.54 mm)
pins: 1 VR (out), 2 IN (in), 3 GND (power), 4 OD (out), 5 MA (in), 6 MB (io), 7 OS (out), 8 VS (power)

## M54125L
designator U?
Earth Leakage Current Detector, 14-Pin ZIP; Published: 5-Feb-2010; DatasheetVersion: Rev.1.0, Sep-2003; PackageVersion: Jun-2006; PackageReference: PRZP0014DA-A; Publisher: Altium Limited; PackageDescription: 14-Pin Plastic ZIP, 19x2.8x6.4 mm Body, 1.27 mm Pitch; Code_JEITA: P-ZIP14-6.3x19-1.27; ComponentLink1Description: Manufacturer Link; ComponentLink1URL: http://sg.renesas.com/fmwk.jsp?cnt=assp_category_landing.jsp&fp=/products/assp; ComponentLink2Description: Datasheet; ComponentLink2URL: http://documentation.renesas.com/eng/products/assp/rej03f0033_m54125l.pdf; ComponentLink3Description: Packaging Specification; ComponentLink3URL: http://sg.renesas.com/media/products/common_info/package/pdf/ic/code/przp0014da_a.pdf
footprint PRZP0014DA-A (ZIP; 14 Leads; Row Space 2.54 mm; Pitch 1.27 mm)
pins: 1 MM, 2 OUT (out), 3 GND (power), 4 NC, 5 TD, 6 NC, 7 WF, 8 IBL (in), 9 RX, 10 NC, 11 NC, 12 VS (power), 13 ILK, 14 VB

## M54128FP
designator U?
Earth Leakage Current Detector, 14-Pin SOP; Published: 5-Feb-2010; DatasheetVersion: Rev.1.0, Sep-2003; PackageVersion: Sep-2005; PackageReference: PRSP0014DD-A; Publisher: Altium Limited; PackageDescription: 14-Pin Plastic Small Outline Package 1.27 mm Pitch; Code_JEITA: P-SOP14-5.3x10.1-1.27; ComponentLink1Description: Manufacturer Link; ComponentLink1URL: http://sg.renesas.com/fmwk.jsp?cnt=assp_category_landing.jsp&fp=/products/assp; ComponentLink2Description: Datasheet; ComponentLink2URL: http://documentation.renesas.com/eng/products/assp/rej03f0027_m54128lfp.pdf; ComponentLink3Description: Packaging Specification; ComponentLink3URL: http://sg.renesas.com/media/products/common_info/package/pdf/ic/code/prsp0014dd_a.pdf
footprint PRSP0014DD-A_N (SOP, 14-Leads, Body 10.1x5.3mm, Pitch 1.27mm, IPC Medium Density)
footprint PRSP0014DD-A_L (SOP, 14-Leads, Body 10.1x5.3mm, Pitch 1.27mm, IPC High Density)
footprint PRSP0014DD-A_M (SOP, 14-Leads, Body 10.1x5.3mm, Pitch 1.27mm, IPC Low Density)
pins: 1 GND (power), 2 IREF, 3 VREF (power), 4 ILKI, 5 TRC1, 6 TRC2, 7 PSEL, 8 SCRT (out), 9 OFFC, 10 TTDC, 11 IBLI (in), 12 PSAV, 13 VCC, 14 VS (power)

## M54128L
designator U?
Earth Leakage Current Detector, 14-Pin ZIP; Published: 5-Feb-2010; DatasheetVersion: Rev.1.0, Sep-2003; PackageVersion: Jun-2006; PackageReference: PRZP0014DA-A; Publisher: Altium Limited; PackageDescription: 14-Pin Plastic ZIP, 19x2.8x6.4 mm Body, 1.27 mm Pitch; Code_JEITA: P-ZIP14-6.3x19-1.27; ComponentLink1Description: Manufacturer Link; ComponentLink1URL: http://sg.renesas.com/fmwk.jsp?cnt=assp_category_landing.jsp&fp=/products/assp; ComponentLink2Description: Datasheet; ComponentLink2URL: http://documentation.renesas.com/eng/products/assp/rej03f0027_m54128lfp.pdf; ComponentLink3Description: Packaging Specification; ComponentLink3URL: http://sg.renesas.com/media/products/common_info/package/pdf/ic/code/przp0014da_a.pdf
footprint PRZP0014DA-A (ZIP; 14 Leads; Row Space 2.54 mm; Pitch 1.27 mm)
pins: 1 SCRT (out), 2 OFFC, 3 TTDC, 4 IBLI (in), 5 PSAV, 6 VCC, 7 VS (power), 8 GND (power), 9 IREF, 10 VREF (power), 11 ILKI, 12 TRC1, 13 TRC2, 14 PSEL

## M54133FP
designator U?
Earth Leakage Current Detector, 16-Pin SOP; Published: 5-Feb-2010; DatasheetVersion: Rev.1.0, Sep-2003; PackageVersion: Sep-2005; PackageReference: PRSP0016DE-A; Publisher: Altium Limited; PackageDescription: 16-Pin Plastic Small Outline Package 1.27 mm Pitch; Code_JEITA: P-SOP16-5.3x10.1-1.27; ComponentLink1Description: Manufacturer Link; ComponentLink1URL: http://sg.renesas.com/fmwk.jsp?cnt=assp_category_landing.jsp&fp=/products/assp; ComponentLink2Description: Datasheet; ComponentLink2URL: http://documentation.renesas.com/eng/products/assp/rej03f0029_m54133fpgp.pdf; ComponentLink3Description: Packaging Specification; ComponentLink3URL: http://sg.renesas.com/media/products/common_info/package/pdf/ic/code/prsp0016de_a.pdf
footprint PRSP0016DE-A_N (SOP, 16-Leads, Body 10.1x5.3mm, Pitch 1.27mm, IPC Medium Density)
footprint PRSP0016DE-A_L (SOP, 16-Leads, Body 10.1x5.3mm, Pitch 1.27mm, IPC High Density)
footprint PRSP0016DE-A_M (SOP, 16-Leads, Body 10.1x5.3mm, Pitch 1.27mm, IPC Low Density)
pins: 1 GND (power), 2 IREF, 3 VCC (power), 4 OFFC (out), 5 TRC1 (out), 6 TRC2 (out), 7 DLYC (out), 8 SCRT (out), 9 VREF (power), 10 ILKI (in), 11 OPAO (out), 12 C2 (in), 13 OPI- (in), 14 C1 (in), 15 OPI+ (in), 16 VS (power)

## M54133GP
designator U?
Earth Leakage Current Detector, 16-Pin SOP; Published: 5-Feb-2010; DatasheetVersion: Rev.1.0, Sep-2003; PackageVersion: Sep-2005; PackageReference: PLSP0016JA-A; Publisher: Altium Limited; PackageDescription: 16-Pin Plastic Small Outline Package 0.65 mm Pitch; Code_JEITA: P-LSSOP16-4.4x5-0.65; ComponentLink1Description: Manufacturer Link; ComponentLink1URL: http://sg.renesas.com/fmwk.jsp?cnt=assp_category_landing.jsp&fp=/products/assp; ComponentLink2Description: Datasheet; ComponentLink2URL: http://documentation.renesas.com/eng/products/assp/rej03f0029_m54133fpgp.pdf; ComponentLink3Description: Packaging Specification; ComponentLink3URL: http://sg.renesas.com/media/products/common_info/package/pdf/ic/code/plsp0016ja_a.pdf
footprint PLSP0016JA-A_N (SOP, 16-Leads, Body 5x4.4mm, Pitch 0.65mm, IPC Medium Density)
footprint PLSP0016JA-A_L (SOP, 16-Leads, Body 5x4.4mm, Pitch 0.65mm, IPC High Density)
footprint PLSP0016JA-A_M (SOP, 16-Leads, Body 5x4.4mm, Pitch 0.65mm, IPC Low Density)
pins: 1 GND (power), 2 IREF, 3 VCC (power), 4 OFFC (out), 5 TRC1 (out), 6 TRC2 (out), 7 DLYC (out), 8 SCRT (out), 9 VREF (power), 10 ILKI (in), 11 OPAO (out), 12 C2 (in), 13 OPI- (in), 14 C1 (in), 15 OPI+ (in), 16 VS (power)

## M54134FP
designator U?
Earth Leakage Current Detector, 16-Pin SOP; Published: 5-Feb-2010; DatasheetVersion: Rev.1.0, Sep-2003; PackageVersion: Sep-2005; PackageReference: PRSP0016DE-A; Publisher: Altium Limited; PackageDescription: 16-Pin Plastic Small Outline Package 1.27 mm Pitch; Code_JEITA: P-SOP16-5.3x10.1-1.27; ComponentLink1Description: Manufacturer Link; ComponentLink1URL: http://sg.renesas.com/fmwk.jsp?cnt=assp_category_landing.jsp&fp=/products/assp; ComponentLink2Description: Datasheet; ComponentLink2URL: http://documentation.renesas.com/eng/products/assp/rej03f0030_m54134fpgp.pdf; ComponentLink3Description: Packaging Specification; ComponentLink3URL: http://sg.renesas.com/media/products/common_info/package/pdf/ic/code/prsp0016de_a.pdf
footprint PRSP0016DE-A_N (SOP, 16-Leads, Body 10.1x5.3mm, Pitch 1.27mm, IPC Medium Density)
footprint PRSP0016DE-A_L (SOP, 16-Leads, Body 10.1x5.3mm, Pitch 1.27mm, IPC High Density)
footprint PRSP0016DE-A_M (SOP, 16-Leads, Body 10.1x5.3mm, Pitch 1.27mm, IPC Low Density)
pins: 1 GND (power), 2 IREF, 3 VCC (power), 4 OFFC (out), 5 TRC1 (out), 6 TRC2 (out), 7 DLYC (out), 8 SCRT (out), 9 VREF (power), 10 ILKI (in), 11 OPAO (out), 12 C2 (in), 13 OPI- (in), 14 C1 (in), 15 OPI+ (in), 16 VS (power)

## M54134GP
designator U?
Earth Leakage Current Detector, 16-Pin SOP; Published: 5-Feb-2010; DatasheetVersion: Rev.1.0, Sep-2003; PackageVersion: Sep-2005; PackageReference: PLSP0016JA-A; Publisher: Altium Limited; PackageDescription: 16-Pin Plastic Small Outline Package 0.65 mm Pitch; Code_JEITA: P-LSSOP16-4.4x5-0.65; ComponentLink1Description: Manufacturer Link; ComponentLink1URL: http://sg.renesas.com/fmwk.jsp?cnt=assp_category_landing.jsp&fp=/products/assp; ComponentLink2Description: Datasheet; ComponentLink2URL: http://documentation.renesas.com/eng/products/assp/rej03f0030_m54134fpgp.pdf; ComponentLink3Description: Packaging Specification; ComponentLink3URL: http://sg.renesas.com/media/products/common_info/package/pdf/ic/code/plsp0016ja_a.pdf
footprint PLSP0016JA-A_N (SOP, 16-Leads, Body 5x4.4mm, Pitch 0.65mm, IPC Medium Density)
footprint PLSP0016JA-A_L (SOP, 16-Leads, Body 5x4.4mm, Pitch 0.65mm, IPC High Density)
footprint PLSP0016JA-A_M (SOP, 16-Leads, Body 5x4.4mm, Pitch 0.65mm, IPC Low Density)
pins: 1 GND (power), 2 IREF, 3 VCC (power), 4 OFFC (out), 5 TRC1 (out), 6 TRC2 (out), 7 DLYC (out), 8 SCRT (out), 9 VREF (power), 10 ILKI (in), 11 OPAO (out), 12 C2 (in), 13 OPI- (in), 14 C1 (in), 15 OPI+ (in), 16 VS (power)

## M56710FP
designator U?
F2F Magnetic Stripe Encoding Card Reader, 20-Pin SOP; Published: 5-Feb-2010; DatasheetVersion: Rev.2.01, Mar-2008; PackageVersion: Sep-2005; PackageReference: PRSP0020DA-A; Publisher: Altium Limited; PackageDescription: 20-Pin Plastic Small Outline Package, 12.6 x 5.3 x 1.8 mm Body, 1.27 mm Pitch; Code_JEITA: P-SOP20-5.3x12.6-1.27; ComponentLink1Description: Manufacturer Link; ComponentLink1URL: http://sg.renesas.com/fmwk.jsp?cnt=assp_category_landing.jsp&fp=/products/assp; ComponentLink2Description: Datasheet; ComponentLink2URL: http://documentation.renesas.com/eng/products/assp/rej03f0175_m56710fpds.pdf; ComponentLink3Description: Packaging Specification; ComponentLink3URL: http://sg.renesas.com/media/products/common_info/package/pdf/ic/code/prsp0020da_a.pdf
footprint PRSP0020DA-A_N (SOP, 20-Leads, Body 12.6x5.3mm, Pitch 1.27mm, IPC Medium Density)
footprint PRSP0020DA-A_L (SOP, 20-Leads, Body 12.6x5.3mm, Pitch 1.27mm, IPC High Density)
footprint PRSP0020DA-A_M (SOP, 20-Leads, Body 12.6x5.3mm, Pitch 1.27mm, IPC Low Density)
pins: 1 LDI (in), 2 NC, 3 F2F (out), 4 PKO, 5 PKI (in), 6 AMP (out), 7 HD2 (in), 8 HD1 (in), 9 VRF (power), 10 GND (power), 11 RCP (out), 12 RDT (out), 13 CLS (out), 14 INV (in), 15 IB2 (in), 16 IB1 (in), 17 CX2, 18 CX1, 19 VCC2 (power), 20 VCC1 (power)

## M59330P
designator U?
LAN Transciever for Automotive, 8-Pin DIP; Published: 5-Feb-2010; DatasheetVersion: Rev.1.0, Sep-2003; PackageVersion: Sep-2005; PackageReference: PRDP0008AA-A; Publisher: Altium Limited; PackageDescription: 8-Pin Plastic DIP, 8.9 x 6.3 mm Body, 7.62 mm Row Spacing, Pitch 2.54 mm; Code_JEITA: P-DIP8-6.3x8.84-2.54; ComponentLink1Description: Manufacturer Link; ComponentLink1URL: http://sg.renesas.com/fmwk.jsp?cnt=assp_category_landing.jsp&fp=/products/assp; ComponentLink2Description: Datasheet; ComponentLink2URL: http://documentation.renesas.com/eng/products/assp/rej03f0032_m59330p.pdf; ComponentLink3Description: Packaging Specification; ComponentLink3URL: http://sg.renesas.com/media/products/common_info/package/pdf/ic/code/prdp0008aa_a.pdf
footprint PRDP0008AA-A (DIP, 8-Leads, Row Spacing 7.62mm, Pitch 2.54mm, Body 8.9x6.3mm)
pins: 1 TX (in), 2 STB (in), 3 ERR (io), 4 RX (out), 5 VSS (power), 6 BUS(-) (io), 7 BUS(+) (io), 8 VDD (power)

## M59350FP
designator U?
Watchdog Timer with 5V Regulator, 14-Pin SOP; Published: 5-Feb-2010; DatasheetVersion: Rev.1.00, Aug-2003; PackageVersion: Sep-2005; PackageReference: PRSP0014DD-A; Publisher: Altium Limited; PackageDescription: 14-Pin Plastic Small Outline Package 1.27 mm Pitch; Code_JEITA: P-SOP14-5.3x10.1-1.27; ComponentLink1Description: Manufacturer Link; ComponentLink1URL: http://sg.renesas.com/fmwk.jsp?cnt=assp_category_landing.jsp&fp=/products/assp; ComponentLink2Description: Datasheet; ComponentLink2URL: http://documentation.renesas.com/eng/products/assp/rej03f0016_m59350fp.pdf; ComponentLink3Description: Packaging Specification; ComponentLink3URL: http://sg.renesas.com/media/products/common_info/package/pdf/ic/code/prsp0014dd_a.pdf
footprint PRSP0014DD-A_N (SOP, 14-Leads, Body 10.1x5.3mm, Pitch 1.27mm, IPC Medium Density)
footprint PRSP0014DD-A_L (SOP, 14-Leads, Body 10.1x5.3mm, Pitch 1.27mm, IPC High Density)
footprint PRSP0014DD-A_M (SOP, 14-Leads, Body 10.1x5.3mm, Pitch 1.27mm, IPC Low Density)
pins: 1 VO (power), 2 VOADJ, 3 IADJ, 4 VREF (power), 5 C2, 6 HALT (out), 7 COMP, 8 P-RUN, 9 C1, 10 EN (in), 11 RESET (out), 12 GND (power), 13 VB (power), 14 B

## M61047FP
designator U?
Li-Ion battery protection for 3 to 4 cell, 20-Pin SOP; Published: 5-Feb-2010; DatasheetVersion: Rev.2.00, Mar-2005; PackageVersion: Sep-2005; PackageReference: PLSP0020JB-A; Publisher: Altium Limited; PackageDescription: 20-Pin Plastic Low Profile Shrink SOP, 6.5 x 4.4 x 1.15 mm Body, 0.65 mm Pitch; Code_JEITA: P-LSSOP20-4.4x6.5-0.65; Code_JEDEC: MO-152-AC; ComponentLink1Description: Manufacturer Link; ComponentLink1URL: http://sg.renesas.com/fmwk.jsp?cnt=assp_category_landing.jsp&fp=/products/assp; ComponentLink2Description: Datasheet; ComponentLink2URL: http://documentation.renesas.com/eng/products/assp/rej03f0005_m61047fp.pdf; ComponentLink3Description: Packaging Specification; ComponentLink3URL: http://sg.renesas.com/media/products/common_info/package/pdf/ic/code/plsp0020jb_a.pdf
footprint PLSP0020JB-A_N (SOP, 20-Leads, Body 6.5x4.4mm, Pitch 0.65mm, IPC Medium Density)
footprint PLSP0020JB-A_L (SOP, 20-Leads, Body 6.5x4.4mm, Pitch 0.65mm, IPC High Density)
footprint PLSP0020JB-A_M (SOP, 20-Leads, Body 6.5x4.4mm, Pitch 0.65mm, IPC Low Density)
pins: 1 CK (in), 2 DI (in), 3 ANALOG (out), 4 CFET (out), 5 DFET (out), 6 PCFET (out), 7 GND (power), 8 VREG (power), 9 VCC (power), 10 DFETCNT (in), 11 NC, 12 NC, 13 VIN12 (in), 14 RESET (out), 15 VIN4 (in), 16 VIN3 (in), 17 VIN2 (in), 18 VIN1 (in), 19 CFETCNT (in), 20 CS (in)

## M61048FP
designator U?
Li-ion battery protection for 3 to 4 cell, 20-Pin SOP; Published: 5-Feb-2010; DatasheetVersion: Rev.1.00, Mar-2005; PackageVersion: Sep-2005; PackageReference: PLSP0020JB-A; Publisher: Altium Limited; PackageDescription: 20-Pin Plastic Low Profile Shrink SOP, 6.5 x 4.4 x 1.15 mm Body, 0.65 mm Pitch; Code_JEITA: P-LSSOP20-4.4x6.5-0.65; Code_JEDEC: MO-152-AC; ComponentLink1Description: Manufacturer Link; ComponentLink1URL: http://sg.renesas.com/fmwk.jsp?cnt=assp_category_landing.jsp&fp=/products/assp; ComponentLink2Description: Datasheet; ComponentLink2URL: http://documentation.renesas.com/eng/products/assp/rej03f0129_m61048fp.pdf; ComponentLink3Description: Packaging Specification; ComponentLink3URL: http://sg.renesas.com/media/products/common_info/package/pdf/ic/code/plsp0020jb_a.pdf
footprint PLSP0020JB-A_N (SOP, 20-Leads, Body 6.5x4.4mm, Pitch 0.65mm, IPC Medium Density)
footprint PLSP0020JB-A_L (SOP, 20-Leads, Body 6.5x4.4mm, Pitch 0.65mm, IPC High Density)
footprint PLSP0020JB-A_M (SOP, 20-Leads, Body 6.5x4.4mm, Pitch 0.65mm, IPC Low Density)
pins: 1 CK (in), 2 DI (in), 3 ANALOG (out), 4 CFET (out), 5 DFET (out), 6 PCFET (out), 7 GND (power), 8 VREG (power), 9 NC, 10 VCC (power), 11 DFETCNT (in), 12 NC, 13 VIN12 (in), 14 RESET (out), 15 VIN4 (in), 16 VIN3 (in), 17 VIN2 (in), 18 VIN1 (in), 19 CFETCNT (in), 20 CS (in)

## M61110FP
designator U?
PLL-Split VIF/SIF(NTSC), Coil-less, 24-Pin SOP; Published: 5-Feb-2010; DatasheetVersion: Rev.2.0, Mar-2004; PackageVersion: Sep-2005; PackageReference: PRSP0024GA-A; Publisher: Altium Limited; PackageDescription: 24-Pin Plastic Shrink SOP, 10.1 x 5.3 x 1.8 mm Body, 0.8 mm Pitch; Code_JEITA: P-SSOP24-5.3x10.1-0.80; ComponentLink1Description: Manufacturer Link; ComponentLink1URL: http://sg.renesas.com/fmwk.jsp?cnt=assp_category_landing.jsp&fp=/products/assp; ComponentLink2Description: Datasheet; ComponentLink2URL: http://documentation.renesas.com/eng/products/assp/rej03f0021_m61110fpgp.pdf; ComponentLink3Description: Packaging Specification; ComponentLink3URL: http://sg.renesas.com/media/products/common_info/package/pdf/ic/code/prsp0024ga_a.pdf
footprint PRSP0024GA-A_N (SOP, 24-Leads, Body 10.1x5.3mm, Pitch 0.8mm, IPC Medium Density)
footprint PRSP0024GA-A_L (SOP, 24-Leads, Body 10.1x5.3mm, Pitch 0.8mm, IPC High Density)
footprint PRSP0024GA-A_M (SOP, 24-Leads, Body 10.1x5.3mm, Pitch 0.8mm, IPC Low Density)
pins: 1 EQ OUT (out), 2 VREG OUT (power), 3 APC FILT, 4 EQ IN (in), 5 VCC (power), 6 VCO COIL, 7 VCO COIL, 8 IF AGC FILT, 9 VIDEO OUT (out), 10 QIF OUT (out), 11 GND (power), 12 LIM IN (in), 13 QIF AGC FILT, 14 AUDIO OUT (out), 15 NFB (in), 16 QIF DET IN (in), 17 RF AGC OUT (out), 18 AFT OUT (out), 19 GND (power), 20 VIF IN (in), 21 VIF IN (in), 22 RF AGC DELAY, 23 IF AGC FILT, 24 EQ F/B (in)

## M61110GP
designator U?
PLL-Split VIF/SIF(NTSC), Coil-less, 24-Pin SOP; Published: 5-Feb-2010; DatasheetVersion: Rev.2.0, Mar-2004; PackageVersion: Sep-2005; PackageReference: PLSP0024JA-A; Publisher: Altium Limited; PackageDescription: 24-Pin Plastic Low Profile Shrink SOP, 7.8 x 5.6 x 1.15 mm Body, 0.65 mm Pitch; Code_JEITA: P-LSSOP24-5.6x7.8-0.65; ComponentLink1Description: Manufacturer Link; ComponentLink1URL: http://sg.renesas.com/fmwk.jsp?cnt=assp_category_landing.jsp&fp=/products/assp; ComponentLink2Description: Datasheet; ComponentLink2URL: http://documentation.renesas.com/eng/products/assp/rej03f0021_m61110fpgp.pdf; ComponentLink3Description: Packaging Specification; ComponentLink3URL: http://sg.renesas.com/media/products/common_info/package/pdf/ic/code/plsp0024ja_a.pdf
footprint PLSP0024JA-A_N (SOP, 24-Leads, Body 7.8x5.6mm, Pitch 0.65mm, IPC Medium Density)
footprint PLSP0024JA-A_L (SOP, 24-Leads, Body 7.8x5.6mm, Pitch 0.65mm, IPC High Density)
footprint PLSP0024JA-A_M (SOP, 24-Leads, Body 7.8x5.6mm, Pitch 0.65mm, IPC Low Density)
pins: 1 EQ OUT (out), 2 VREG OUT (power), 3 APC FILT, 4 EQ IN (in), 5 VCC (power), 6 VCO COIL, 7 VCO COIL, 8 IF AGC FILT, 9 VIDEO OUT (out), 10 QIF OUT (out), 11 GND (power), 12 LIM IN (in), 13 QIF AGC FILT, 14 AUDIO OUT (out), 15 NFB (in), 16 QIF DET IN (in), 17 RF AGC OUT (out), 18 AFT OUT (out), 19 GND (power), 20 VIF IN (in), 21 VIF IN (in), 22 RF AGC DELAY, 23 IF AGC FILT, 24 EQ F/B (in)

## M61113FP
designator U?
PLL-Inter VIF/SIF(NTSC), Coil-less, 20-Pin SOP; ComponentAvailability: EOL Product; Published: 5-Feb-2010; DatasheetVersion: Rev.1.00, Aug-2003; PackageVersion: Sep-2005; PackageReference: PLSP0020JB-A; Publisher: Altium Limited; PackageDescription: 20-Pin Plastic Low Profile Shrink SOP, 6.5 x 4.4 x 1.15 mm Body, 0.65 mm Pitch; Code_JEITA: P-LSSOP20-4.4x6.5-0.65; Code_JEDEC: MO-152-AC; ComponentLink1Description: Manufacturer Link; ComponentLink1URL: http://sg.renesas.com/fmwk.jsp?cnt=assp_category_landing.jsp&fp=/products/assp; ComponentLink2Description: Datasheet; ComponentLink2URL: http://documentation.renesas.com/eng/products/assp/rej03f0015_m61113fp.pdf; ComponentLink3Description: Packaging Specification; ComponentLink3URL: http://sg.renesas.com/media/products/common_info/package/pdf/ic/code/plsp0020jb_a.pdf
footprint PLSP0020JB-A_N (SOP, 20-Leads, Body 6.5x4.4mm, Pitch 0.65mm, IPC Medium Density)
footprint PLSP0020JB-A_L (SOP, 20-Leads, Body 6.5x4.4mm, Pitch 0.65mm, IPC High Density)
footprint PLSP0020JB-A_M (SOP, 20-Leads, Body 6.5x4.4mm, Pitch 0.65mm, IPC Low Density)
pins: 1 VIDEO OUT (out), 2 VIDEO IN (in), 3 VCC (power), 4 VIDEO DET OUT (out), 5 APC FILT, 6 VCO F/B (Defeat) (in), 7 SIF IN (Delay Point) (in), 8 SIF OUT (US / JP SW) (out), 9 AUDIO OUT (out), 10 AUDIO LEVEL CONT (in), 11 REF SIGNAL (3.58/4.00) (in), 12 LOGIC VCC (power), 13 AFT OUT (out), 14 RF AGC OUT (out), 15 GND (power), 16 VIF IN1 (in), 17 VIF IN2 (in), 18 IF AGC FILT1, 19 IF AGC FILT2, 20 EQ AMP F/B (in)

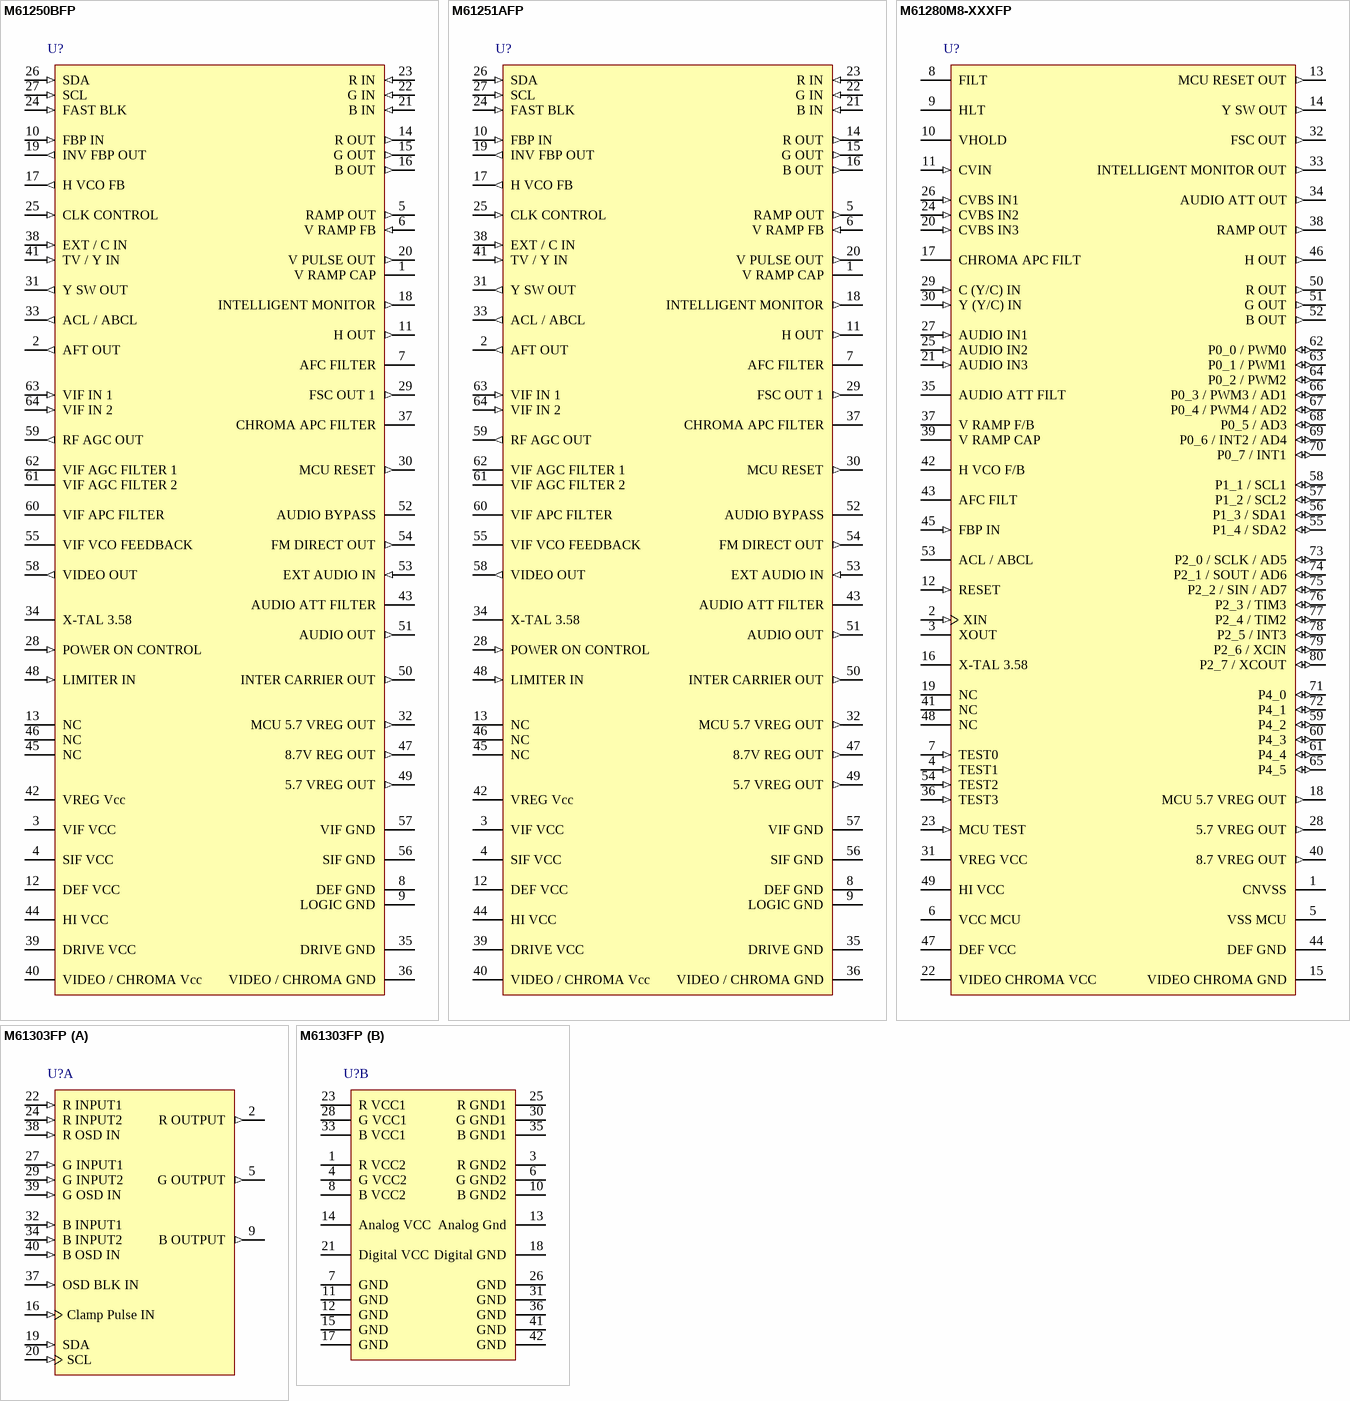
[diagram p5: symbols M61250BFP to M61303FP]